# EAGLE library part 79109-12 (library con-molex-milli-grid)
RECEPTACAL
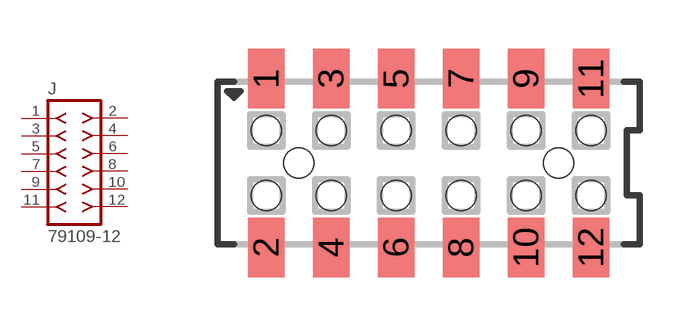
[diagram p163: symbol with the pads of 79109-12; footprint 79109-12]

Designator prefix J

## 79109-12  [79109-12]
1  1  pas
2  2  pas
3  3  pas
4  4  pas
5  5  pas
6  6  pas
7  7  pas
8  8  pas
9  9  pas
10  10  pas
11  11  pas
12  12  pas

## Footprint 79109-12 (pad centres in mm)
RECEPTACAL SMD Dual Row, Vertical, Pass-Thru
smd 1.12 x 1.83: 1 -5,2.6; 2 -5,-2.6; 3 -3,2.6; 4 -3,-2.6; 5 -1,2.6; 6 -1,-2.6; 7 1,2.6; 8 1,-2.6; 9 3,2.6; 10 3,-2.6; 11 5,2.6; 12 5,-2.6
hole 0.914 at -4,0
hole 0.914 at -5,1
hole 0.914 at -5,-1
hole 0.914 at -3,-1
hole 0.914 at -3,1
hole 0.914 at -1,-1
hole 0.914 at -1,1
hole 0.914 at 4,0
hole 0.914 at 1,1
hole 0.914 at 1,-1
hole 0.914 at 3,1
hole 0.914 at 3,-1
hole 0.914 at 5,1
hole 0.914 at 5,-1